# Altium schematic symbol library OpAmp_PSU_01.SchLib: 10 symbols
Pins are listed as number, name and electrical type; pins without a type are passive.

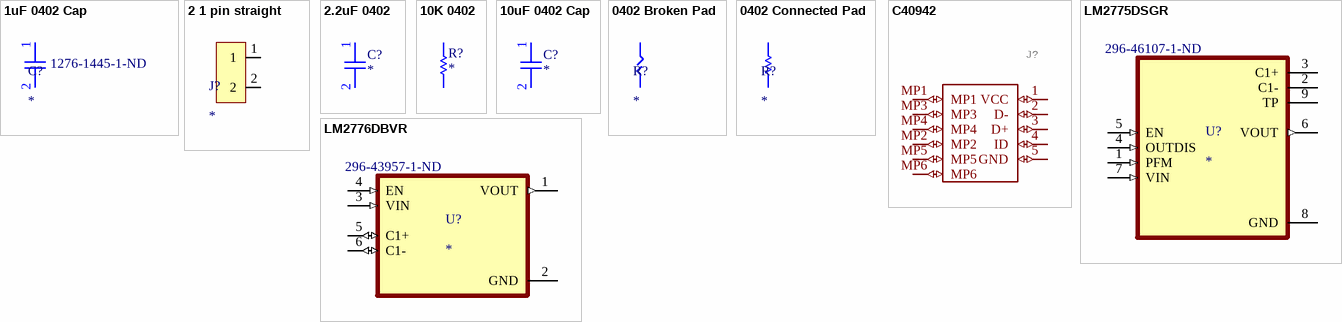
[diagram p0: symbols 1uF 0402 Cap to LM2776DBVR]

## 1uF 0402 Cap
designator C?  Supplier Part Number 1: 1276-1445-1-ND
C52923; ComponentLink1Description: New link; ComponentLink1URL: *; Supplier 1: Digi-Key
footprint 0402 Cap
pins: 1, 2

## 2 1 pin straight
designator J?
footprint 2 1 pin staright
pins: 1, 2

## 2.2uF 0402
designator C?
C307418; ComponentLink1Description: New link; ComponentLink1URL: *; Supplier 1: Digi-Key; Supplier Part Number 1: 1276-1460-1-ND
footprint 0402 Cap
pins: 1, 2

## 10K 0402
designator R?
Supplier 2: Farnell; Supplier Part Number 1: MCS0402-10.0K-CFCT-ND; Supplier Part Number 2: 2614406; Supplier 1: Digi-Key
footprint 0402 Res
pins: 1, 2

## 10uF 0402 Cap
designator C?
C15525; ComponentLink1Description: New link; ComponentLink1URL: *; Supplier 1: Digi-Key; Supplier Part Number 1: 1276-1451-1-ND
footprint 0402 Cap
pins: 1, 2

## 0402 Broken Pad
designator R?
footprint 0402 broken pad
pins: 1, 2

## 0402 Connected Pad
designator R?
footprint 0402 connected pad
pins: 1, 2

## C40942
designator J?, comment USB Connectors SMD RoHS   Source:  Datasheet  (value not drawn)
C40942; Manufacturer_Name: Jing Extension of the Electronic Co.; GateName_1: G$1; SymbolName_1: C40942; LibraryName: C40942; DeviceSetName: C40942; Package: C40942; Manufacturer_Part_Number: C40942; Height: 2.55mm
footprint C40942
pins: 1 VCC (io), 2 D- (io), 3 D+ (io), 4 ID (io), 5 GND (io), MP1 (io), MP2 (io), MP3 (io), MP4 (io), MP5 (io), MP6 (io)

## LM2775DSGR
designator U?  Supplier Part Number 1: 296-46107-1-ND
C473361; MP: LM2775DSGR; MF: {'manufacturer': u'Texas Instruments'}; Availability: Unavailable; Price: None; Package: None; Value: *; Supplier 1: Digi-Key
footprint SON50P200X200X80-9N
pins: 1 PFM (in), 2 C1- (power), 3 C1+ (power), 4 OUTDIS (in), 5 EN (in), 6 VOUT (out), 7 VIN (in), 8 GND (power), 9 TP (power)

## LM2776DBVR
designator U?  Supplier Part Number 1: 296-43957-1-ND
C69527; MF: {'manufacturer': u'Texas Instruments'}; MP: LM2776DBVR; Value: *; Package: None; Price: None; Availability: Unavailable; Supplier 1: Digi-Key
footprint SOT95P280X145-6N
pins: 1 VOUT (out), 2 GND (power), 3 VIN (in), 4 EN (in), 5 C1+ (io), 6 C1- (io)